# Altium schematic symbol library ECB01-Kit-V1.0.SchLib: 6 symbols
Pins are listed as number, name and electrical type; pins without a type are passive.

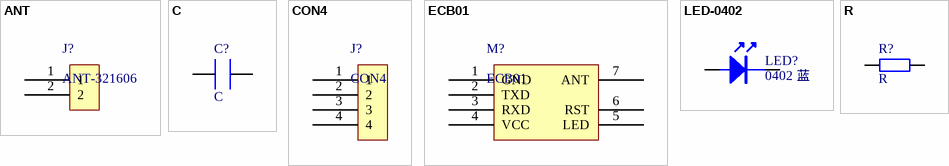
[diagram p0: symbols ANT to R]

## ANT
designator J?, comment ANT-321606
footprint ANT-321606
pins: 1, 2

## C
designator C?
类型: 电容; 封装: 0402; 参数规格: *; 厂家: *; 厂家料号: *
footprint 0402
pins: 1, 2

## CON4
designator J?
footprint SIP04
pins: 1, 2, 3, 4

## ECB01
designator M?
footprint ECB01
pins: 1 GND, 2 TXD, 3 RXD, 4 VCC, 5 LED, 6 RST, 7 ANT

## LED-0402
designator LED?, comment 0402 蓝
封装: 0402; 类型: LED; 厂家: *; 厂家料号: *; 参数规格: *; 参考价格: *; 编号: *; 备注: *
footprint 0402-led
pins: 1, 2

## R
designator R?
类型: 电阻; 封装: 0402; 厂家: *; 厂家料号: *; 参数规格: *; 参考价格: *; 编号: *; 备注: *
footprint 0402
footprint 0402
pins: 1, 2